# Altium schematic symbol library DS90UR241-Q1.SchLib: 1 symbol
Pins are listed as number, name and electrical type; pins without a type are passive.

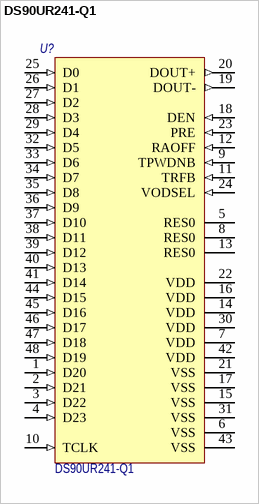
[diagram p0: symbol DS90UR241-Q1]

## DS90UR241-Q1
designator U?
24-Bit FPD-Link II Serializer; Потребление: 0.3; Назначение: 24-Bit FPD-Link II Serializer; Наименование: DS90UR241-Q1
footprint LQFP-48_0.5 (LQFP, 48 Pin, 0.5mm Pitch)
pins: 1 D20 (in), 2 D21 (in), 3 D22 (in), 4 D23 (in), 5 RES0, 6 VSS (power), 7 VDD (power), 8 RES0, 9 TPWDNB (in), 10 TCLK (in), 11 TRFB (in), 12 RAOFF (in), 13 RES0, 14 VDD (power), 15 VSS (power), 16 VDD (power), 17 VSS (power), 18 DEN (in), 19 DOUT- (out), 20 DOUT+ (out), 21 VSS (power), 22 VDD (power), 23 PRE (in), 24 VODSEL (in), 25 D0 (in), 26 D1 (in), 27 D2 (in), 28 D3 (in), 29 D4 (in), 30 VDD (power), 31 VSS (power), 32 D5 (in), 33 D6 (in), 34 D7 (in), 35 D8 (in), 36 D9 (in), 37 D10 (in), 38 D11 (in), 39 D12 (in), 40 D13 (in), 41 D14 (in), 42 VDD (power), 43 VSS (power), 44 D15 (in), 45 D16 (in), 46 D17 (in), 47 D18 (in), 48 D19 (in)